# Altium footprint library PCB - POWER MODULE - TI MICROSIP-15 SIT0015A.PCBLIB: 1 footprints
Each footprint in its own frame and in the unit in brackets; x right, y up, seen from the top. Pads: shape width x height; smd on the part's side, far side on the other; paste and mask are expansions set on the pad; w line width, h text height; cw(c..) or ccw(c..) is an arc to the next point about the centre after c.
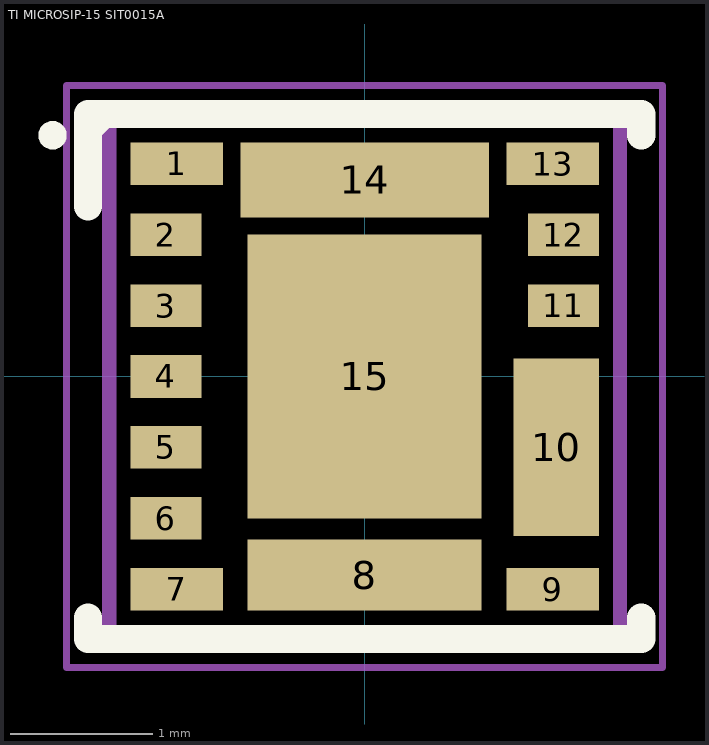
[diagram p0: the footprint, top view; thin cyan lines are the x and y axes]

## TI MICROSIP-15 SIT0015A [mm] "MicroSIP, 15-Leads, Body 3.50x3.50mm"
height 1.6
pads (15):
  rect 0.65x0.3 smd: 1(-1.325,1.5) 7(-1.325,-1.5) 9(1.325,-1.5) 13(1.325,1.5)
  rect 0.5x0.3 smd: 2(-1.4,1) 3(-1.4,0.5) 4(-1.4,0) 5(-1.4,-0.5) 6(-1.4,-1) 11(1.4,0.5) 12(1.4,1)
  rect 1.65x0.5 smd: 8(0,-1.4)
  rect 0.6x1.25 smd: 10(1.35,-0.5)
  rect 1.75x0.53 smd: 14(0,1.385)
  rect 1.65x2 smd: 15(0,0)
Top Overlay:
  circle w0.1: c-2.2,1.7 r0.05
  region: -1.95,1.85 -1.7,1.85 -1.95,1.6
  lines w0.2: -1.95,-1.7 -1.95,-1.85 1.95,-1.85 1.95,-1.7 ; -1.95,1.2 -1.95,1.85 1.95,1.85 1.95,1.7
Mechanical 13:
  lines w0.1: -1.8,-1.8 1.8,-1.8 1.8,1.8 -1.8,1.8 -1.8,-1.8
Mechanical 15:
  lines w0.05: -2.1,-2.05 2.1,-2.05 2.1,2.05 -2.1,2.05 -2.1,-2.05
  lines w0.1: -0.5,0 0.5,0 ; 0,-0.5 0,0.5
3D body "TI microSIP-15 SIT0015A.step": height 1.6, standoff 0, extent -1.75,-1.75 1.75,1.75